# EAGLE library part 90325-9006 (library Molex_By_element14_Batch_1)
HEADER
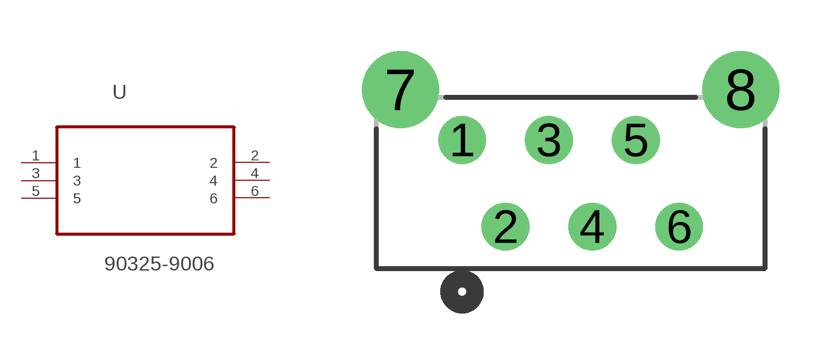
[diagram p44: symbol with the pads of MOLEX_90325-9006; footprint MOLEX_90325-9006]

Designator prefix U

## 90325-9006 (MPN: 90325-9006; OC_FARNELL: 1757012; OC_NEWARK: 25M5992; PACKAGE: HEADER, 1.27MM, 6 WAY; SUPPLIER: Molex)  [MOLEX_90325-9006]
1  1  pas
2  2  pas
3  3  pas
4  4  pas
5  5  pas
6  6  pas

## Footprint MOLEX_90325-9006 (pad centres in mm)
drill 0.889: 1 0,5.08; 2 1.27,2.54; 3 2.54,5.08; 4 3.81,2.54; 5 5.08,5.08; 6 6.35,2.54
drill 1.499: 7 -1.803,6.553; 8 8.153,6.553